# Altium footprint library KYOCERA CX3225GB.PCBLIB: 1 footprints
Each footprint in its own frame and in the unit in brackets; x right, y up, seen from the top. Pads: shape width x height; smd on the part's side, far side on the other; paste and mask are expansions set on the pad; w line width, h text height; cw(c..) or ccw(c..) is an arc to the next point about the centre after c.
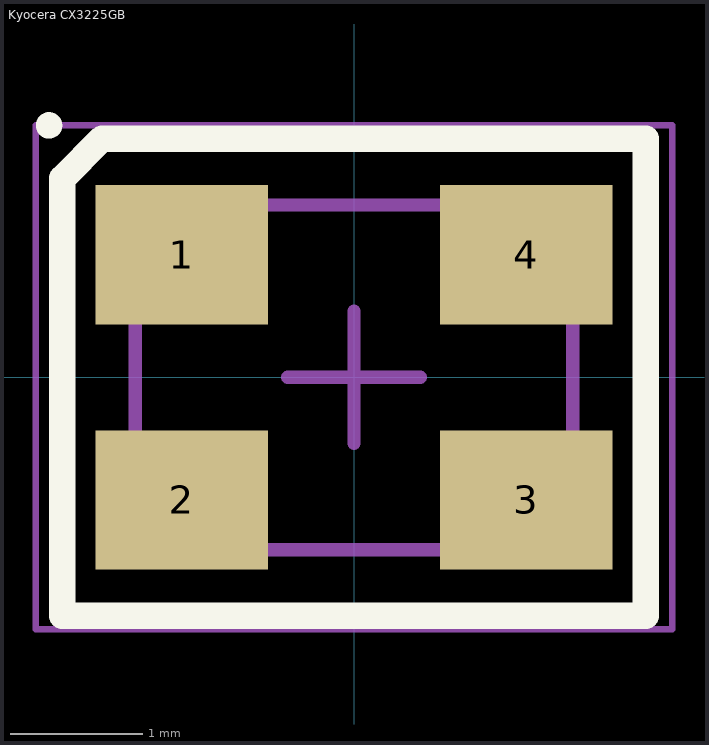
[diagram p0: the footprint, top view; thin cyan lines are the x and y axes]

## Kyocera CX3225GB [mm] "Crystal, 4-Leads, Body 2.50x3.20mm, Pitch 2.20mm, IPC Medium Density"
height 0.6
pads (4):
  rect 1.3x1.05 smd: 1(-1.3,0.925) 2(-1.3,-0.925) 3(1.3,-0.925) 4(1.3,0.925)
Top Overlay:
  circle w0.1: c-2.3,1.9 r0.05
  lines w0.2: -2.2,-1.8 -2.2,1.5 -1.9,1.8 -1.2,1.8 2.2,1.8 2.2,-1.8 -2.2,-1.8
Mechanical 13:
  lines w0.1: -1.65,-1.3 -1.65,1.3 1.65,1.3 1.65,-1.3 -1.65,-1.3
Mechanical 15:
  lines w0.05: -2.4,-1.9 -2.4,1.9 2.4,1.9 2.4,-1.9 -2.4,-1.9
  lines w0.1: -0.5,0 0.5,0 ; 0,-0.5 0,0.5
3D body "Kyocera CX3225GB.STEP": height 0.85, standoff 0, extent -1.61,-1.26 1.61,1.26